# Altium schematic symbol library WS2812.Schlib: 1 symbol
Pins are listed as number, name and electrical type; pins without a type are passive.

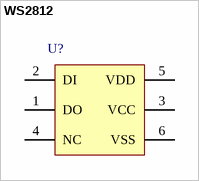
[diagram p0: symbol WS2812]

## WS2812
designator U?  (value not drawn)
Addressable RGB LED IC
pins: 1 DO, 2 DI, 3 VCC, 4 NC, 5 VDD, 6 VSS